# Altium footprint library SM_ME0005V2.6_20161210.PcbLib: 25 footprints (part 2 of 2)
Each footprint in its own frame and in the unit in brackets; x right, y up, seen from the top. Pads: shape width x height; smd on the part's side, far side on the other; paste and mask are expansions set on the pad; w line width, h text height; cw(c..) or ccw(c..) is an arc to the next point about the centre after c.
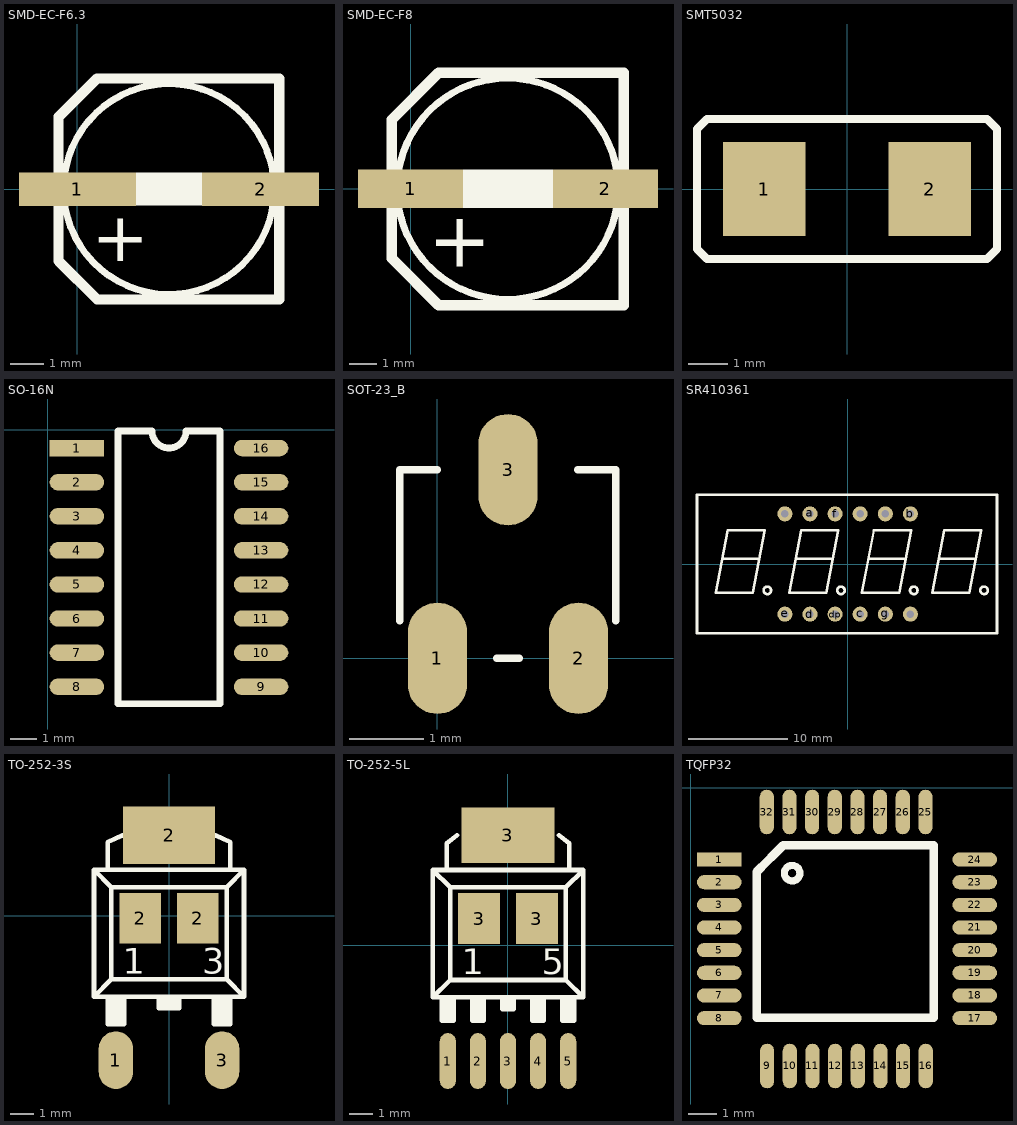
[diagram p1: the footprints below, top view; thin cyan lines are the x and y axes]

## SMD-EC-F6.3 [mm]
pads (2):
  rect 3.5x1 smd: 1(0,0) 2(5.475,0)
Top Overlay:
  rectangle: 1.746,-0.496 3.73,0.5
  lines w0.203: 5.667,1.156 ccw(c2.736,0.002) 5.667,1.154
  lines w0.305: 0.587,-3.303 -0.564,-2.152 -0.564,2.163 0.587,3.314 ; 0.589,-3.305 6.036,-3.305 6.036,3.309 0.592,3.309
  text "+" at 0.43,-2.164 h1.5

## SMD-EC-F8 [mm]
pads (2):
  rect 3.8x1.4 smd: 1(0,0) 2(7.051,0)
Top Overlay:
  rectangle: 1.89,-0.7 5.153,0.7
  lines w0.254: 7.515,0 ccw(c3.515,0) 7.515,0
  lines w0.381: -0.686,2.499 1.013,4.198 ; -0.686,2.499 -0.686,-2.52 1.013,-4.219 7.714,-4.219 7.714,4.198 1.013,4.198 ; -0.686,2.499 1.013,4.198
  text "+" at 0.64,-2.818 h2

## SMT5032 [mm]
pads (2):
  rect 2.1x2.4 smd: 1(-2.1,0) 2(2.1,0)
Top Overlay:
  lines w0.203: -3.81,-1.524 -3.556,-1.778 1.016,-1.778 3.556,-1.778 3.81,-1.524 3.81,1.524 3.556,1.778 -3.556,1.778 -3.81,1.524 -3.81,-1.524

## SO-16N [mil]
pads (16):
  rect 80x24 smd: 1(43,-27)
  oval 80x24 smd: 2(43,-77) 3(43,-127) 4(43,-177) 5(43,-227) 6(43,-277) 7(43,-327) 8(43,-377) 9(313,-377) 10(313,-327) 11(313,-277) 12(313,-227) 13(313,-177) 14(313,-127) 15(313,-77) 16(313,-27)
Top Overlay:
  lines w10: 152.76,-2 103,-2 103,-402 253,-402 253,-2 203,-2 cw(c178,-2) 153,-2
3D body: height 83.77, standoff 7, extent 61.59,-402.76 300,2.76

## SOT-23_B [mm]
pads (3):
  oval 0.8x1.5 smd: 1(0,0) 2(1.9,0) 3(0.95,2.54)
Top Overlay:
  lines w0.1: -0.508,0.508 -0.508,2.54 0,2.54 ; 0.8,0 1.1,0 ; 1.892,2.54 2.4,2.54 2.4,0.508
3D body: height 1.2, standoff 0, extent -0.485,-0.127 2.415,2.673

## SR410361 [mil]
pads (12):
  round 60 hole 30: a(-150,200) b(250,200) c(50,-200) com1(-250,200) com2(50,200) com3(150,200) com4(250,-200) d(-150,-200) dp(-50,-200) e(-250,-200) f(-50,200) g(150,-200)
Top Overlay:
  circle w10: c543.4,-105 r15
  circle w10: c-320,-105 r15
  circle w10: c-26.6,-105 r15
  circle w10: c263.4,-105 r15
  lines w10: -600,-275.59 595,-275.59 ; -600,-275 -600,275 ; -600,275.59 595,275.59 ; -495.88,20 -360,20 ; -202.48,20 -66.6,20 ; 87.52,20 223.4,20 ; 367.52,20 503.4,20 ; 595,-275 595,275 ; -526.24,-115 -378.4,-115 -330.55,135 -478.4,135 -526.24,-115 ; -232.84,-115 -185,135 -37.16,135 -85,-115 -232.84,-115 ; 57.16,-115 105,135 252.84,135 205,-115 57.16,-115 ; 337.16,-115 485,-115 532.84,135 385,135 337.16,-115
3D body: height 287.4, standoff -232.28, extent -590.55,-275 590.55,276.18

## TO-252-3S [mm]
pads (5):
  oval 1.5x2.5 smd: 1(-2.3,-6.25) 3(2.3,-6.25)
  rect 1.8x2.2 smd: 2(-1.25,-0.1) 2(1.25,-0.1)
  rect 4x2.5 smd: 2(0,3.5)
Top Overlay:
  rectangle: 1.95,-4.7 2.65,-3.5
  rectangle: -0.45,-4 0.45,-3.5
  rectangle: -2.65,-4.7 -1.95,-3.5
  lines w0.2: -2.65,-3.5 -2.65,-4.7 -1.95,-4.7 -1.95,-3.5 ; -2.65,2 -2.65,3.2 -2,3.5 2,3.5 2.65,3.2 2.65,2 ; -0.45,-3.5 -0.45,-4 0.45,-4 0.45,-3.5 ; 1.95,-3.5 1.95,-4.7 2.65,-4.7 2.65,-3.5 ; -3.25,-3.5 -2.5,-2.75 ; -3.25,-3.5 -3.25,2 ; -3.25,-3.5 3.25,-3.5 ; -3.25,2 -2.5,1.25 ; -3.25,2 3.25,2 ; -2.5,-2.75 2.5,-2.75 ; -2.5,-2.75 -2.5,1.25 ; -2.5,1.25 2.5,1.25 ; 2.5,1.25 3.25,2 ; 2.5,1.25 2.5,-2.75 ; 2.5,-2.75 3.25,-3.5 ; 3.25,-3.5 3.25,2
  text "1" at -2,-2.5 h1.1
  text "3" at 1.45,-2.5 h1.1

## TO-252-5L [mm]
pads (8):
  oval 0.7x2.413 smd: 1(-2.6,-5) 2(-1.3,-5) 3(0,-5) 4(1.3,-5) 5(2.6,-5)
  rect 1.8x2.2 smd: 3(-1.25,1.15) 3(1.25,1.15)
  rect 4x2.413 smd: 3(0,4.75)
Top Overlay:
  rectangle: -0.3,-2.75 0.25,-2.25
  rectangle: -2.85,-3.25 -2.35,-2.25
  rectangle: -1.55,-3.25 -1.05,-2.25
  rectangle: 1.05,-3.25 1.55,-2.25
  rectangle: 2.35,-3.25 2.85,-2.25
  lines w0.2: -2.85,-2.25 -2.85,-3.25 -2.35,-3.25 -2.35,-2.25 ; -2.65,3.25 -2.65,4.4 -2.2,4.75 ; -1.55,-2.25 -1.55,-3.25 -1.05,-3.25 -1.05,-2.25 ; -0.25,-2.25 -0.25,-2.75 0.25,-2.75 0.25,-2.25 ; 1.05,-2.25 1.05,-3.25 1.55,-3.25 1.55,-2.25 ; 2.2,4.75 2.65,4.4 2.65,3.25 ; 2.35,-2.25 2.35,-3.25 2.85,-3.25 2.85,-2.25 ; -3.25,-2.25 -2.5,-1.5 ; -3.25,-2.25 -3.25,3.25 ; -3.25,-2.25 3.25,-2.25 ; -3.25,3.25 -2.5,2.5 ; -3.25,3.25 3.25,3.25 ; -2.5,-1.5 2.5,-1.5 ; -2.5,-1.5 -2.5,2.5 ; -2.5,2.5 2.5,2.5 ; 2.5,-1.5 3.25,-2.25 ; 2.5,-1.5 2.5,2.5 ; 2.5,2.5 3.25,3.25 ; 3.25,-2.25 3.25,3.25
  text "1" at -2,-1.25 h1.1
  text "5" at 1.45,-1.25 h1.1

## TQFP32 [mil]
pads (32):
  rect 62x19.68 smd: 1(40,-100)
  oval 62x19.68 smd: 2(40,-131.5) 3(40,-162.99) 4(40,-194.49) 5(40,-225.98) 6(40,-257.48) 7(40,-288.98) 8(40,-320.47) 17(395,-320.47) 18(395,-288.98) 19(395,-257.48) 20(395,-225.98) 21(395,-194.49) 22(395,-162.99) 23(395,-131.5) 24(395,-100)
  oval 19.68x62 smd: 9(106.51,-387) 10(138.01,-387) 11(169.5,-387) 12(201,-387) 13(232.5,-387) 14(263.99,-387) 15(295.49,-387) 16(326.98,-387) 25(326.52,-33.95) 26(295.02,-33.95) 27(263.53,-33.95) 28(232.03,-33.95) 29(200.54,-33.95) 30(169.04,-33.95) 31(137.54,-33.95) 32(106.05,-33.95)
Top Overlay:
  circle w10: c141.23,-119 r10.77
  lines w12: 93,-116 129,-80 338,-80 338,-320 92,-320 92,-117 98.99,-110.01
3D body: height 62.99, standoff -1.97, extent 39,-388.17 393.33,-33.83